# EAGLE library part SI8035AA-B-IU (library IC)
DGTL ISO 1KV 3CH GEN PURP 16QSOP Manufacturer's datasheet <https://www.silabs.com/documents/public/data-sheets/Si80xx-1kV.pdf>
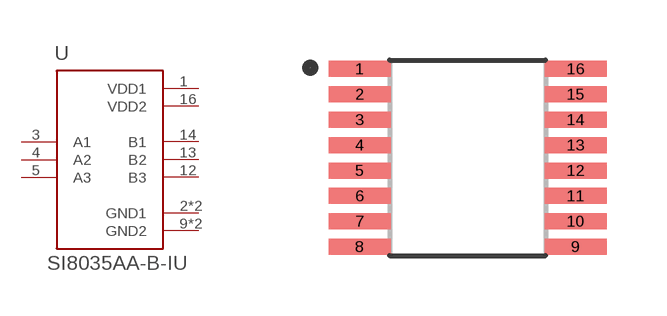
[diagram p36: symbol with the pads of 16-SOP; footprint 16-SOP]

Designator prefix U

## SI8035AA-B-IU (CREATED_BY: PCBLayout.com; DIGIKEY_PN: 336-3021-ND; MANUFACTURER: Silicon Labs; MPN: SI8035AA-B-IU; PACKAGE: 16-SOP)  [16-SOP]
1  VDD1  pwr
2  GND1  pwr
3  A1  in
4  A2  in
5  A3  in
8  GND1  pwr
9  GND2  pwr
12  B3  out
13  B2  out
14  B1  out
15  GND2  pwr
16  VDD2  pwr

## Footprint 16-SOP (pad centres in mm)
smd 1.55 x 0.4: 1 -2.7,2.223; 2 -2.7,1.587; 3 -2.7,0.953; 4 -2.7,0.318; 5 -2.7,-0.318; 6 -2.7,-0.953; 7 -2.7,-1.587; 8 -2.7,-2.223; 9 2.7,-2.223; 10 2.7,-1.587; 11 2.7,-0.953; 12 2.7,-0.318; 13 2.7,0.318; 14 2.7,0.953; 15 2.7,1.587; 16 2.7,2.223